# Altium schematic symbol library Crystal.Schlib: 1 symbol
Pins are listed as number, name and electrical type; pins without a type are passive.

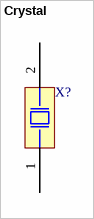
[diagram p0: symbol Crystal]

## Crystal
designator X?
Crystal
pins: 1, 2
1 alternate drawing of the same symbol